# Altium schematic symbol library TLV62568DBVR.SchLib: 1 symbol
Pins are listed as number, name and electrical type; pins without a type are passive.

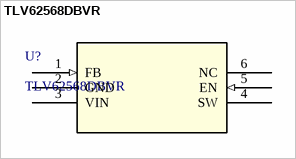
[diagram p0: symbol TLV62568DBVR]

## TLV62568DBVR
designator U?
2.5V-5.5V input, 1A high efficiency step-down buck converter in SOT23 and SOT563 package 5-SOT-23 -40 to 125; Manufacturer_Name: Texas Instruments; Copyright: Copyright (C) 2026 Ultra Librarian. All rights reserved.; Manufacturer_Part_Number: TLV62568DBVR; RefDes: RefDes; Type: Type
footprint DRL0006A_TEX
pins: 1 FB (in), 2 GND (power), 3 VIN (power), 4 SW (power), 5 EN (in), 6 NC